# Altium footprint library MRIND.PcbLib: 1 footprints
Each footprint in its own frame and in the unit in brackets; x right, y up, seen from the top. Pads: shape width x height; smd on the part's side, far side on the other; paste and mask are expansions set on the pad; w line width, h text height; cw(c..) or ccw(c..) is an arc to the next point about the centre after c.
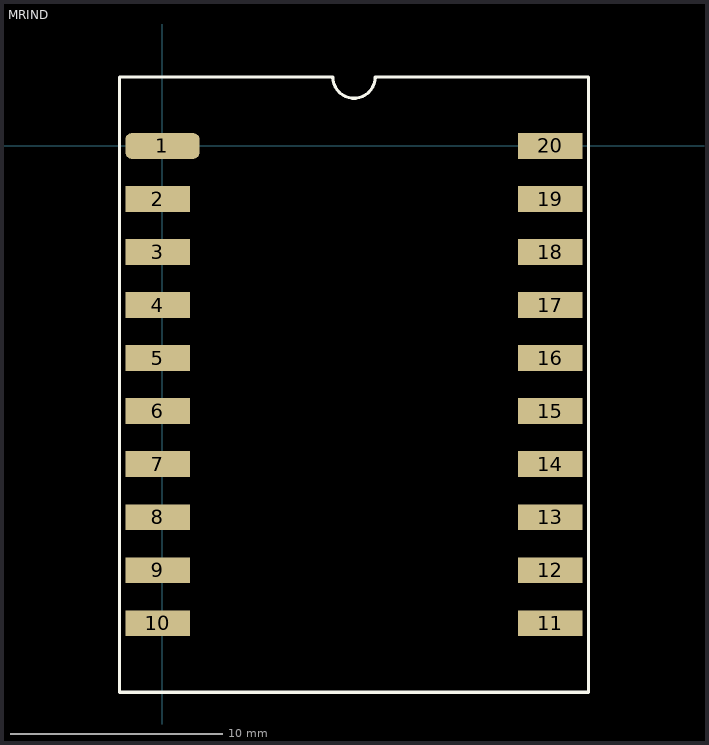
[diagram p0: the footprint, top view; thin cyan lines are the x and y axes]

## MRIND [mil]
pads (20):
  rrect50% 138x48 smd: 1(0,0)
  rect 120x48 smd: 2(-8.66,-98.43) 3(-8.66,-196.85) 4(-8.66,-295.28) 5(-8.66,-393.7) 6(-8.66,-492.13) 7(-8.66,-590.55) 8(-8.66,-688.98) 9(-8.66,-787.4) 10(-8.66,-885.83) 11(719.69,-885.83) 12(719.69,-787.4) 13(719.69,-688.98) 14(719.69,-590.55) 15(719.69,-492.13) 16(719.69,-393.7) 17(719.69,-295.28) 18(719.69,-196.85) 19(719.69,-98.43) 20(719.69,0)
Top Overlay:
  lines w6: -79.53,-1013.78 -79.53,127.95 316.14,127.95 ccw(c355.51,127.95) 394.88,127.95 790.55,127.95 790.55,-1013.78 -79.53,-1013.78
3D body "МРИНД.STEP": height -16.2, standoff -178.4, extent -24.04,-1011.77 724.04,130